# EAGLE library part DS03-254-12BE (library 000_ICS)
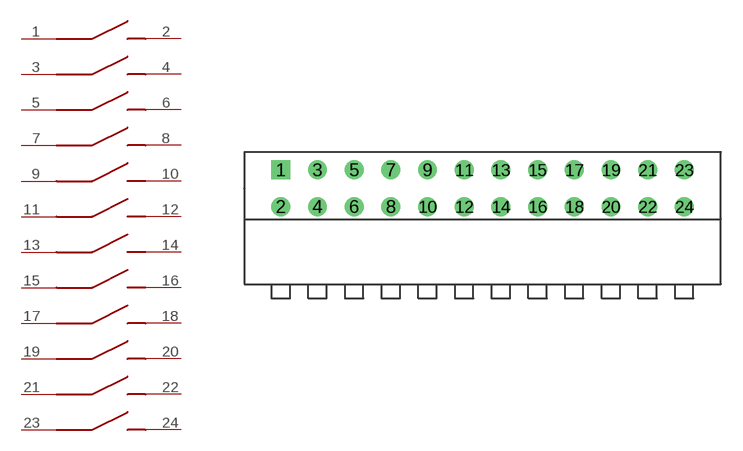
[diagram p24: symbol with the pads of DS03-254-12BE; footprint DS03-254-12BE]

Designator prefix SW; gates 1=DIP 2=DIP 3=DIP 4=DIP 5=DIP 6=DIP 7=DIP 8=DIP 9=DIP 10=DIP 11=DIP 12=DIP

## DS03-254-12BEDS03-254-12BE  [DS03-254-12BE]
1  1:1
2  1:2
3  2:1
4  2:2
5  3:1
6  3:2
7  4:1
8  4:2
9  5:1
10  5:2
11  6:1
12  6:2
13  7:1
14  7:2
15  8:1
16  8:2
17  9:1
18  9:2
19  10:1
20  10:2
21  11:1
22  11:2
23  12:1
24  12:2

## Footprint DS03-254-12BE (pad centres in mm)
drill 0.8 square: 1 -13.97,1.27
drill 0.8: 2 -13.97,-1.27; 3 -11.43,1.27; 4 -11.43,-1.27; 5 -8.89,1.27; 6 -8.89,-1.27; 7 -6.35,1.27; 8 -6.35,-1.27; 9 -3.81,1.27; 10 -3.81,-1.27; 11 -1.27,1.27; 12 -1.27,-1.27; 13 1.27,1.27; 14 1.27,-1.27; 15 3.81,1.27; 16 3.81,-1.27; 17 6.35,1.27; 18 6.35,-1.27; 19 8.89,1.27; 20 8.89,-1.27; 21 11.43,1.27; 22 11.43,-1.27; 23 13.97,1.27; 24 13.97,-1.27